# EAGLE library part SP3232ECA-L (library Exar_By_element14_Batch_1)
True +3.0V to +5.5V RS-232 Transceivers
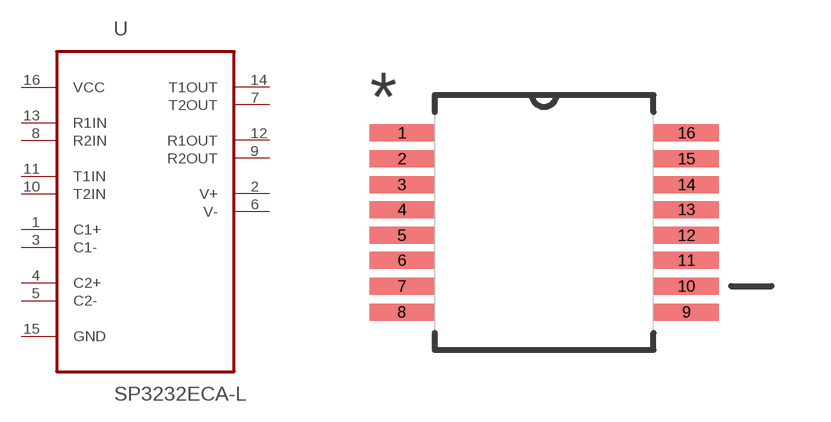
[diagram p26: symbol with the pads of SOP65P780X200-16N; footprint SOP65P780X200-16N]

Designator prefix U

## SP3232ECA-L (MPN: SP3232ECA-L; OC_FARNELL: 9386882; OC_NEWARK: 24R0368; PACKAGE: SSOP-16; SUPPLIER: EXAR)  [SOP65P780X200-16N]
1  C1+  in
2  V+  pwr
3  C1-  in
4  C2+  in
5  C2-  in
6  V-  pwr
7  T2OUT  out
8  R2IN  in
9  R2OUT  out
10  T2IN  in
11  T1IN  in
12  R1OUT  out
13  R1IN  in
14  T1OUT  out
15  GND  pas
16  VCC  pwr

## Footprint SOP65P780X200-16N (pad centres in mm)
smd 1.651 x 0.432: 1 -3.632,2.286; 2 -3.632,1.626; 3 -3.632,0.965; 4 -3.632,0.33; 5 -3.632,-0.33; 6 -3.632,-0.965; 7 -3.632,-1.626; 8 -3.632,-2.286; 9 3.632,-2.286; 10 3.632,-1.626; 11 3.632,-0.965; 12 3.632,-0.33; 13 3.632,0.33; 14 3.632,0.965; 15 3.632,1.626; 16 3.632,2.286